# EAGLE library part LTC5594 (library Analog Devices)
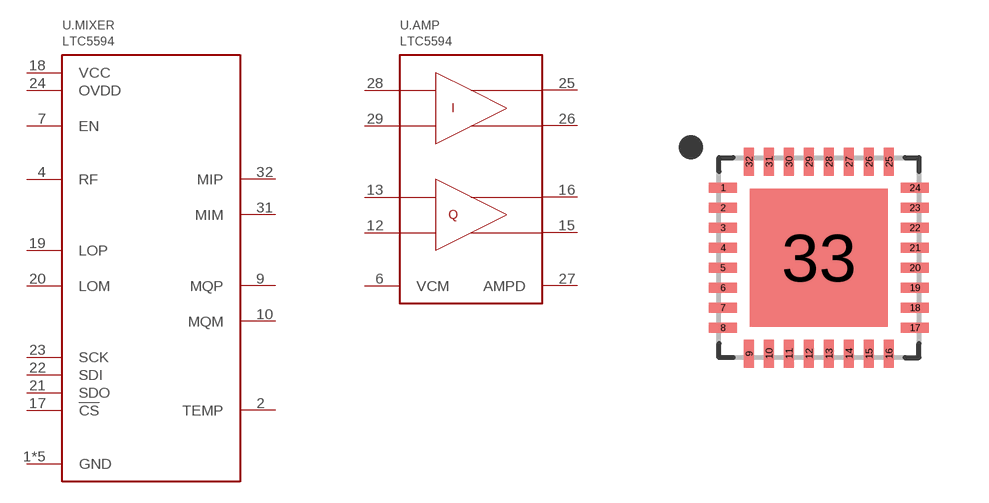
[diagram p56: symbol with the pads of QFN32_2; footprint QFN32_2]

Designator prefix U; gates .AMP=LTC5594_AMP .MIXER=LTC5594_MIXER

## LTC5594  [QFN32_2]
1  .MIXER:GND
2  .MIXER:TEMP
3  .MIXER:GND
4  .MIXER:RF
5  .MIXER:GND
6  .AMP:VCM
7  .MIXER:EN
8  .MIXER:GND
9  .MIXER:MQP
10  .MIXER:MQM
12  .AMP:AQM
13  .AMP:AQP
15  .AMP:IFQM
16  .AMP:IFQP
17  .MIXER:!CS
18  .MIXER:VCC
19  .MIXER:LOP
20  .MIXER:LOM
21  .MIXER:SDO
22  .MIXER:SDI
23  .MIXER:SCK
24  .MIXER:OVDD
25  .AMP:IFIP
26  .AMP:IFIM
27  .AMP:AMPD
28  .AMP:AIP
29  .AMP:AIM
31  .MIXER:MIM
32  .MIXER:MIP
33  .MIXER:GND

## Footprint QFN32_2 (pad centres in mm)
smd 0.7 x 0.25: 1 -2.4,1.75; 2 -2.4,1.25; 3 -2.4,0.75; 4 -2.4,0.25; 5 -2.4,-0.25; 6 -2.4,-0.75; 7 -2.4,-1.25; 8 -2.4,-1.75; 17 2.4,-1.75; 18 2.4,-1.25; 19 2.4,-0.75; 20 2.4,-0.25; 21 2.4,0.25; 22 2.4,0.75; 23 2.4,1.25; 24 2.4,1.75
smd 0.25 x 0.7: 9 -1.75,-2.4; 10 -1.25,-2.4; 11 -0.75,-2.4; 12 -0.25,-2.4; 13 0.25,-2.4; 14 0.75,-2.4; 15 1.25,-2.4; 16 1.75,-2.4; 25 1.75,2.4; 26 1.25,2.4; 27 0.75,2.4; 28 0.25,2.4; 29 -0.25,2.4; 30 -0.75,2.4; 31 -1.25,2.4; 32 -1.75,2.4
smd 3.45 x 3.45: 33 0,0